# Altium footprint library DMT35M4LFDF.PcbLib: 1 footprints
Each footprint in its own frame and in the unit in brackets; x right, y up, seen from the top. Pads: shape width x height; smd on the part's side, far side on the other; paste and mask are expansions set on the pad; w line width, h text height; cw(c..) or ccw(c..) is an arc to the next point about the centre after c.
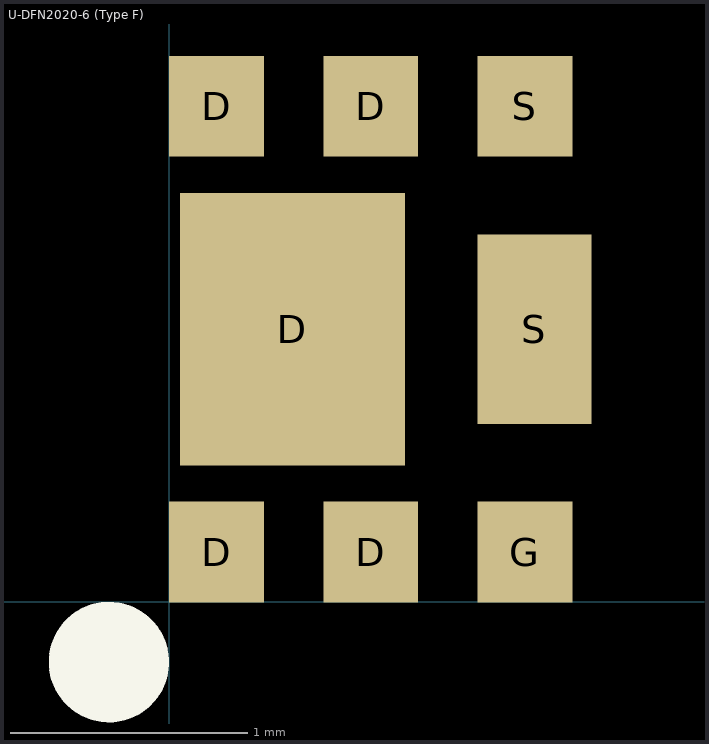
[diagram p0: the footprint, top view; thin cyan lines are the x and y axes]

## U-DFN2020-6 (Type F) [mm]
pads (8):
  rect 0.4x0.425 / inner rect 0x0 / far side rect 0x0 all layers, no hole: D(0.2,0.21) D(0.2,2.09) D(0.85,0.21) D(0.85,2.09) G(1.5,0.21) S(1.5,2.09)
  rect 0.95x1.15 / inner rect 0x0 / far side rect 0x0 all layers, no hole mask+0: D(0.52,1.15)
  rect 0.48x0.8 / inner rect 0x0 / far side rect 0x0 all layers, no hole: S(1.54,1.15)
Top Overlay:
  circle w0.254: c-0.254,-0.254 r0.127
3D body "DFN2020F-6.stp": height 0.6, standoff 0, extent -0.15,0.15 1.85,2.15